# Altium schematic symbol library SCH - POWER - LINEAR VREG - XC6206.SCHLIB: 1 symbol
Pins are listed as number, name and electrical type; pins without a type are passive.

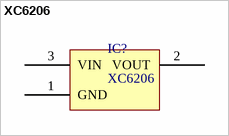
[diagram p0: symbol XC6206]

## XC6206
designator IC?
Linear Voltage Regulator IC Positive Fixed 1 Output 150mA SOT-23
footprint TI SOT-23-3 DBZ (SOT23, 3-Leads, Body 2.92x2.37mm, Pitch 0.95mm, IPC Medium Density)
pins: 1 GND, 2 VOUT, 3 VIN